# EAGLE library part TDA8954 (library Audio-Power-amlifier V.2.0)
The TDA8954 is a stereo or mono high-efficiency Class D audio power amplifier in a single IC featuring low power dissipation. It is designed to deliver up to 2 × 210 W into a 4 Ω load in a stereo Single-Ended (SE) application, or 1 × 420 W into an 8 Ω load in a mono Bridge-Tied Load (BTL) application.
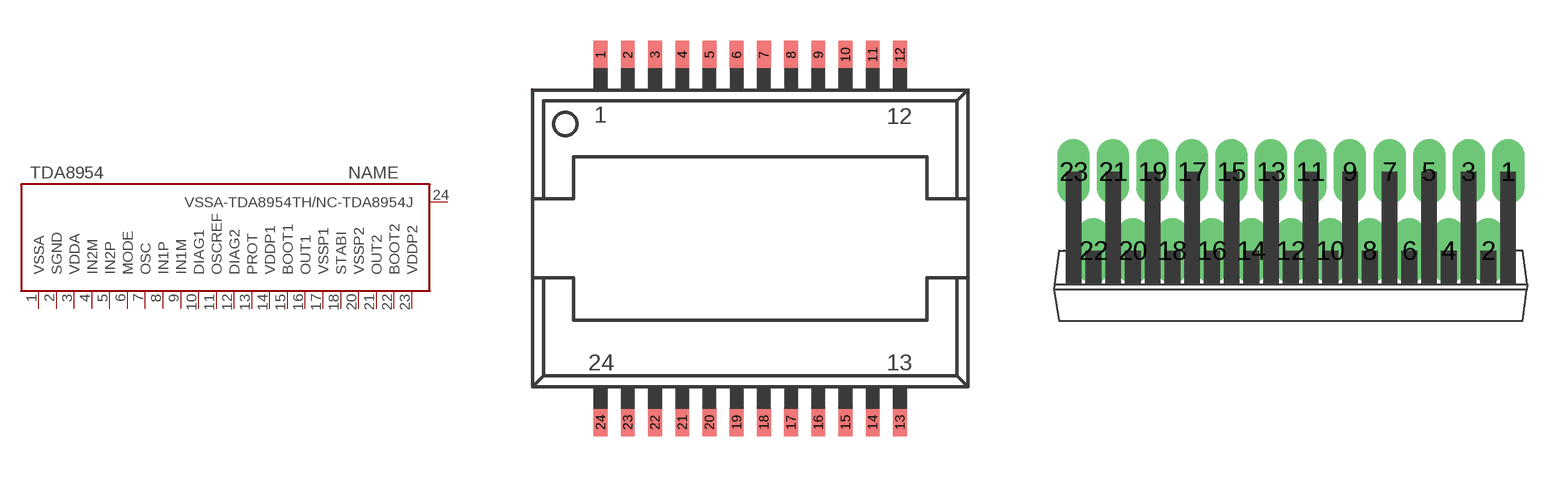
[diagram p166: symbol with the pads of SOT566-3; footprints SOT566-3, SOT411-1]

Designator prefix IC

## TDA8954TDA8954TH  [SOT566-3]
1  VSSA  pwr
2  SGND  pwr
3  VDDA  pwr
4  IN2M  in
5  IN2P  in
6  MODE  in
7  OSC  in
8  IN1P  in
9  IN1M  in
10  DIAG1  out
11  OSCREF
12  DIAG2  out
13  PROT
14  VDDP1  pwr
15  BOOT1
16  OUT1  out
17  VSSP1  pwr
18  STABI
20  VSSP2  pwr
21  OUT2  out
22  BOOT2
23  VDDP2  pwr
24  VSSA-TDA8954TH/NC-TDA8954J  pwr

## TDA8954TDA8954J  [SOT411-1]
1  MODE  in
2  IN2P  in
3  IN2M  in
4  VDDA  pwr
5  SGND  pwr
6  VSSA  pwr
7  VSSA-TDA8954TH/NC-TDA8954J  pwr
8  VDDP2  pwr
9  BOOT2
10  OUT2  out
11  VSSP2  pwr
12  STABI
13  VSSP1  pwr
14  OUT1  out
15  BOOT1
16  VDDP1  pwr
17  PROT
18  DIAG2  out
19  OSCREF
20  DIAG1  out
21  IN1M  in
22  IN1P  in
23  OSC  in

## Footprint SOT566-3 (pad centres in mm)
smd 0.508 x 1.016: 1 -5.5,6.75; 2 -4.5,6.75; 3 -3.5,6.75; 4 -2.5,6.75; 5 -1.5,6.75; 6 -0.5,6.75; 7 0.5,6.75; 8 1.5,6.75; 9 2.5,6.75; 10 3.5,6.75; 11 4.5,6.75; 12 5.5,6.75; 13 5.5,-6.75; 14 4.5,-6.75; 15 3.5,-6.75; 16 2.5,-6.75; 17 1.5,-6.75; 18 0.5,-6.75; 19 -0.5,-6.75; 20 -1.5,-6.75; 21 -2.5,-6.75; 22 -3.5,-6.75; 23 -4.5,-6.75; 24 -5.5,-6.75

## Footprint SOT411-1 (pad centres in mm)
drill 1.4 long: 1 13.97,5.08; 2 12.7,0; 3 11.43,5.08; 4 10.16,0; 5 8.89,5.08; 6 7.62,0; 7 6.35,5.08; 8 5.08,0; 9 3.81,5.08; 10 2.54,0; 11 1.27,5.08; 12 0,0; 13 -1.27,5.08; 14 -2.54,0; 15 -3.81,5.08; 16 -5.08,0; 17 -6.35,5.08; 18 -7.62,0; 19 -8.89,5.08; 20 -10.16,0; 21 -11.43,5.08; 22 -12.7,0; 23 -13.97,5.08